# Altium footprint library JST-GH.PcbLib: 3 footprints
Each footprint in its own frame and in the unit in brackets; x right, y up, seen from the top. Pads: shape width x height; smd on the part's side, far side on the other; paste and mask are expansions set on the pad; w line width, h text height; cw(c..) or ccw(c..) is an arc to the next point about the centre after c.
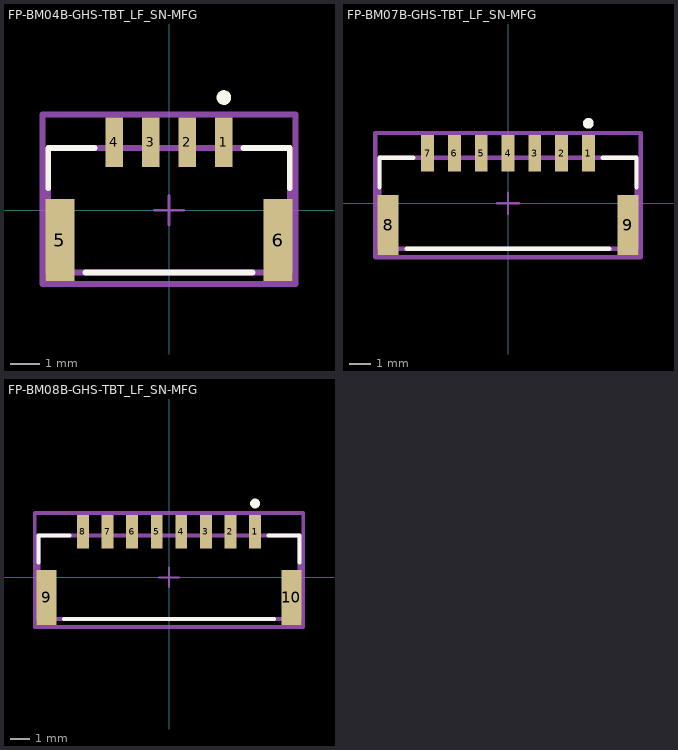
[diagram p0: the footprints below, top view; thin cyan lines are the x and y axes]

## FP-BM04B-GHS-TBT_LF_SN-MFG [mm]
pads (6):
  rect 0.6x1.7 smd paste+0 mask+0: 1(1.875,2.325) 2(0.625,2.325) 3(-0.625,2.325) 4(-1.875,2.325)
  rect 1x2.8 smd paste+0 mask+0: 5(-3.725,-1.025) 6(3.725,-1.025)
Top Overlay:
  circle w0.25: c1.875,3.85 r0.125
  lines w0.2: -4.125,0.75 -4.125,2.125 -2.55,2.125 ; -2.85,-2.125 2.85,-2.125 ; 2.55,2.125 4.125,2.125 4.125,0.75
Top Assembly:
  lines w0.2: -4.325,-2.525 4.325,-2.525 4.325,3.275 -4.325,3.275 -4.325,-2.525
  text ".Designator" at 0,0.563 h1
Top 3D Body:
  lines w0.2: -4.125,-2.125 4.125,-2.125 4.125,2.125 -4.125,2.125 -4.125,-2.125
Top Courtyard:
  lines w0.2: -4.325,-2.525 4.325,-2.525 4.325,3.275 -4.325,3.275 -4.325,-2.525
Top Component Center:
  lines w0.1: -0.5,0 0.5,0 ; 0,-0.5 0,0.5
3D body "Conn_JST_BM04B-GHS-TBT_LF_SN_N_eec.STEP": height 0.25, standoff 0, extent -4.325,-2.525 4.325,3.275

## FP-BM07B-GHS-TBT_LF_SN-MFG [mm]
pads (9):
  rect 0.6x1.7 smd paste+0 mask+0: 1(3.75,2.325) 2(2.5,2.325) 3(1.25,2.325) 4(0,2.325) 5(-1.25,2.325) 6(-2.5,2.325) 7(-3.75,2.325)
  rect 1x2.8 smd paste+0 mask+0: 8(-5.6,-1.025) 9(5.6,-1.025)
Top Overlay:
  circle w0.25: c3.75,3.725 r0.125
  lines w0.2: -6,0.75 -6,2.125 -4.425,2.125 ; -4.725,-2.125 4.725,-2.125 ; 4.425,2.125 6,2.125 6,0.75
Top Assembly:
  lines w0.2: -6.2,-2.525 6.2,-2.525 6.2,3.275 -6.2,3.275 -6.2,-2.525
  text ".Designator" at 0,0.563 h1
Top 3D Body:
  lines w0.2: -6,-2.125 6,-2.125 6,2.125 -6,2.125 -6,-2.125
Top Courtyard:
  lines w0.2: -6.2,-2.525 6.2,-2.525 6.2,3.275 -6.2,3.275 -6.2,-2.525
Top Component Center:
  lines w0.1: -0.5,0 0.5,0 ; 0,-0.5 0,0.5
3D body "Conn_JST_BM07B-GHS-TBT_LF_SN_eec.STEP": height 0.25, standoff 0, extent -6.2,-2.525 6.2,3.275

## FP-BM08B-GHS-TBT_LF_SN-MFG [mm]
pads (10):
  rect 0.6x1.7 smd paste+0 mask+0: 1(4.375,2.325) 2(3.125,2.325) 3(1.875,2.325) 4(0.625,2.325) 5(-0.625,2.325) 6(-1.875,2.325) 7(-3.125,2.325) 8(-4.375,2.325)
  rect 1x2.8 smd paste+0 mask+0: 9(-6.225,-1.025) 10(6.225,-1.025)
Top Overlay:
  circle w0.25: c4.375,3.75 r0.125
  lines w0.2: -6.625,0.75 -6.625,2.125 -5.05,2.125 ; -5.35,-2.125 5.35,-2.125 ; 5.05,2.125 6.625,2.125 6.625,0.75
Top Assembly:
  lines w0.2: -6.825,-2.525 -6.825,3.275 6.825,3.275 6.825,-2.525 -6.825,-2.525
  text ".Designator" at 0,0.563 h1
Top 3D Body:
  lines w0.2: -6.625,-2.125 -6.625,2.125 6.625,2.125 6.625,-2.125 -6.625,-2.125
Top Courtyard:
  lines w0.2: -6.825,-2.525 -6.825,3.275 6.825,3.275 6.825,-2.525 -6.825,-2.525
Top Component Center:
  lines w0.1: -0.5,0 0.5,0 ; 0,-0.5 0,0.5
3D body "Conn_JST_BM08B-GHS-TBT_LF_SN_eec.STEP": height 0.25, standoff 0, extent -6.825,-2.525 6.825,3.275